# Altium footprint library PCB - LEADLESS - DFN - ONSEMI DFN-10 3X3 CASE 485P.PCBLIB: 1 footprints
Each footprint in its own frame and in the unit in brackets; x right, y up, seen from the top. Pads: shape width x height; smd on the part's side, far side on the other; paste and mask are expansions set on the pad; w line width, h text height; cw(c..) or ccw(c..) is an arc to the next point about the centre after c.
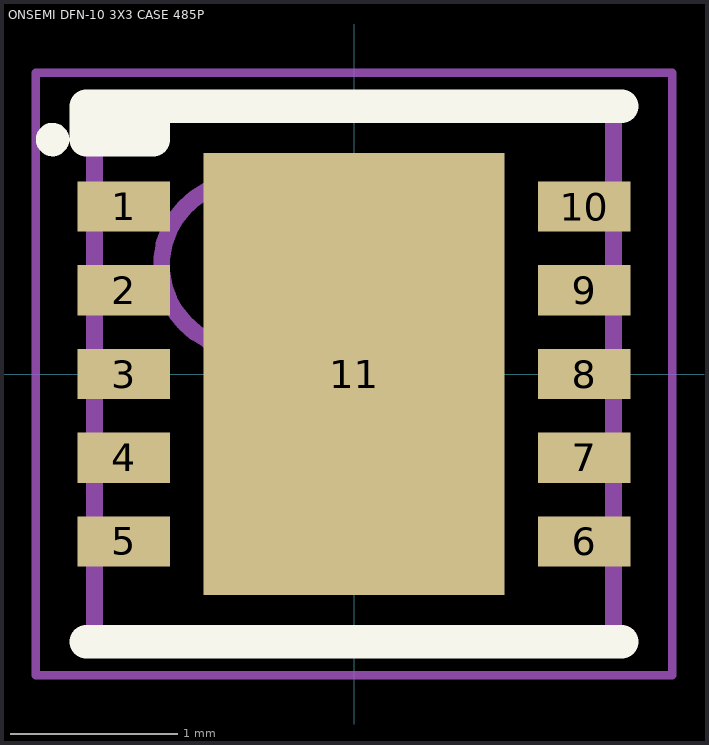
[diagram p0: the footprint, top view; thin cyan lines are the x and y axes]

## ONSEMI DFN-10 3X3 CASE 485P [mm] "DFN, 10-Leads, Body 3.00x3.00mm, Pitch 0.50mm"
height 1
pads (11):
  rect 0.55x0.3 smd: 1(-1.375,1) 2(-1.375,0.5) 3(-1.375,0) 4(-1.375,-0.5) 5(-1.375,-1) 6(1.375,-1) 7(1.375,-0.5) 8(1.375,0) 9(1.375,0.5) 10(1.375,1)
  rect 1.8x2.64 smd: 11(0,0)
Top Overlay:
  circle w0.1: c-1.8,1.4 r0.05
  rectangle: -1.6,1.4 -1.2,1.6
  lines w0.2: -1.6,-1.6 1.6,-1.6 ; -1.2,1.6 -1.2,1.4 -1.6,1.4 -1.6,1.6 1.6,1.6
Mechanical 13:
  circle w0.1: c-0.65,0.65 r0.5
  lines w0.1: -1.55,-1.55 1.55,-1.55 1.55,1.55 -1.55,1.55 -1.55,-1.55
Mechanical 15:
  lines w0.05: -1.9,-1.8 1.9,-1.8 1.9,1.8 -1.9,1.8 -1.9,-1.8
  lines w0.1: -0.5,0 0.5,0 ; 0,-0.5 0,0.5
3D body "ONSEMI DFN-10 3X3 CASE 485P.step": height 1, standoff 0, extent -1.551,-1.55 1.551,1.55